# Altium schematic symbol library ADW1203HLW.SchLib: 1 symbol
Pins are listed as number, name and electrical type; pins without a type are passive.

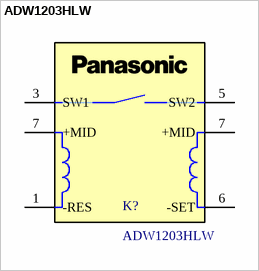
[diagram p0: symbol ADW1203HLW]

## ADW1203HLW
designator K?
RELAY GEN PURPOSE SPST 16A 3V; Manufacturer: Panasonic Electric Works; Rated Current: 16A; Manufacturer Part Number: ADW1203HLW; Working Voltage: 3V
footprint ADW1203HLW
pins: 1 -RES, 3 SW1, 5 SW2, 6 -SET, 7 +MID, 7 +MID